# EAGLE library part DRV8302DCAR (library MikeDesigns)
IC MOTOR CONTROLLER DRIVER PAR 56HTSSOP Manufacturer Part Number: DRV8302DCAR Three Phase Pre-Driver with Dual Current Shunt Amplifiers and Buck Regulator – Hardware Controlled
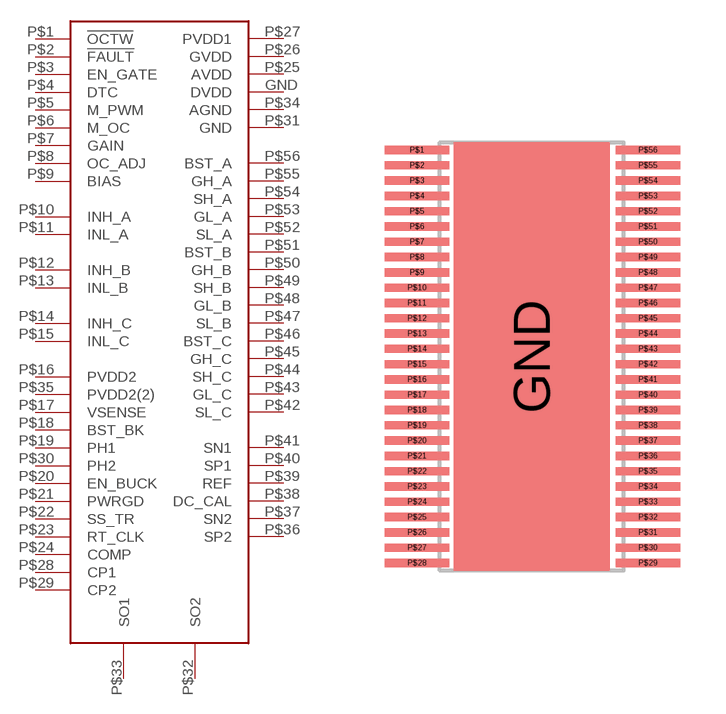
[diagram p1: symbol with the pads of DRV8302DCAR; footprint DRV8302DCAR]

Designator prefix -

## DRV8302DCAR  [DRV8302DCAR]
GND  DVDD
P$1  !OCTW
P$2  !FAULT
P$3  EN_GATE
P$4  DTC
P$5  M_PWM
P$6  M_OC
P$7  GAIN
P$8  OC_ADJ
P$9  BIAS
P$10  INH_A
P$11  INL_A
P$12  INH_B
P$13  INL_B
P$14  INH_C
P$15  INL_C
P$16  PVDD2
P$17  VSENSE
P$18  BST_BK
P$19  PH1
P$20  EN_BUCK
P$21  PWRGD
P$22  SS_TR
P$23  RT_CLK
P$24  COMP
P$25  AVDD
P$26  GVDD
P$27  PVDD1
P$28  CP1
P$29  CP2
P$30  PH2
P$31  GND
P$32  SO2
P$33  SO1
P$34  AGND
P$35  PVDD2(2)
P$36  SP2
P$37  SN2
P$38  DC_CAL
P$39  REF
P$40  SP1
P$41  SN1
P$42  SL_C
P$43  GL_C
P$44  SH_C
P$45  GH_C
P$46  BST_C
P$47  SL_B
P$48  GL_B
P$49  SH_B
P$50  GH_B
P$51  BST_B
P$52  SL_A
P$53  GL_A
P$54  SH_A
P$55  GH_A
P$56  BST_A

## Footprint DRV8302DCAR (pad centres in mm)
IC MOTOR CONTROLLER PAR 56HTSSOP Manufacturer Part Number: DRV8302DCAR Three Phase Pre-Driver with Dual Current Shunt Amplifiers and Buck Regulator – Hardware Controlled
smd 5.1 x 14: GND 0,0
smd 2.1 x 0.27: P$1 -3.75,6.75; P$2 -3.75,6.25; P$3 -3.75,5.75; P$4 -3.75,5.25; P$5 -3.75,4.75; P$6 -3.75,4.25; P$7 -3.75,3.75; P$8 -3.75,3.25; P$9 -3.75,2.75; P$10 -3.75,2.25; P$11 -3.75,1.75; P$12 -3.75,1.25; P$13 -3.75,0.75; P$14 -3.75,0.25; P$15 -3.75,-0.25; P$16 -3.75,-0.75; P$17 -3.75,-1.25; P$18 -3.75,-1.75; P$19 -3.75,-2.25; P$20 -3.75,-2.75; P$21 -3.75,-3.25; P$22 -3.75,-3.75; P$23 -3.75,-4.25; P$24 -3.75,-4.75; P$25 -3.75,-5.25; P$26 -3.75,-5.75; P$27 -3.75,-6.25; P$28 -3.75,-6.75; P$29 3.8,-6.75; P$30 3.8,-6.25; P$31 3.8,-5.75; P$32 3.8,-5.25; P$33 3.8,-4.75; P$34 3.8,-4.25; P$35 3.8,-3.75; P$36 3.8,-3.25; P$37 3.8,-2.75; P$38 3.8,-2.25; P$39 3.8,-1.75; P$40 3.8,-1.25; P$41 3.8,-0.75; P$42 3.8,-0.25; P$43 3.8,0.25; P$44 3.8,0.75; P$45 3.8,1.25; P$46 3.8,1.75; P$47 3.8,2.25; P$48 3.8,2.75; P$49 3.8,3.25; P$50 3.8,3.75; P$51 3.8,4.25; P$52 3.8,4.75; P$53 3.8,5.25; P$54 3.8,5.75; P$55 3.8,6.25; P$56 3.8,6.75